# Altium footprint library SC.PcbLib: 1 footprints
Each footprint in its own frame and in the unit in brackets; x right, y up, seen from the top. Pads: shape width x height; smd on the part's side, far side on the other; paste and mask are expansions set on the pad; w line width, h text height; cw(c..) or ccw(c..) is an arc to the next point about the centre after c.
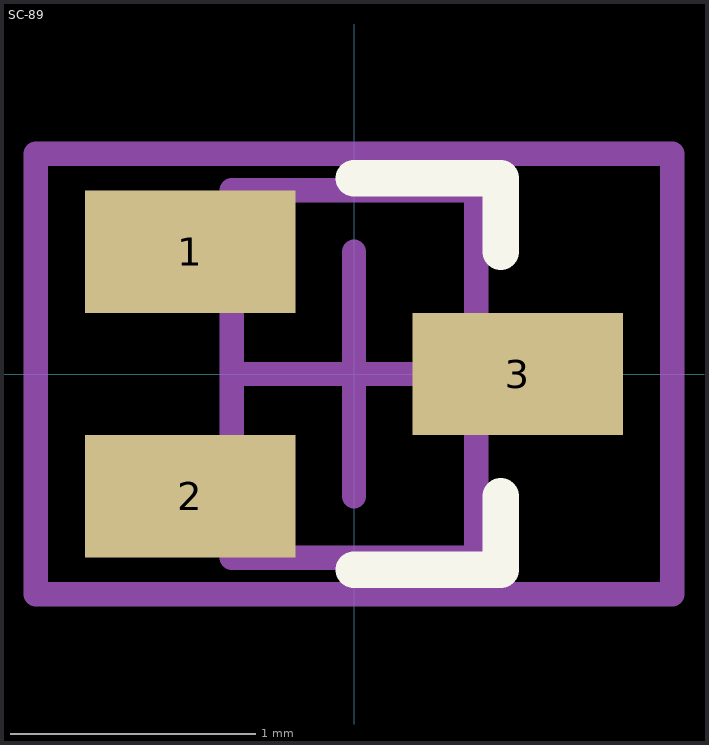
[diagram p0: the footprint, top view; thin cyan lines are the x and y axes]

## SC-89 [mm] "SC-89, 3-Leads, Body 1.7x1mm, Lead Span 1.7mm, IPC Medium Density"
height 0.8
pads (3):
  rect 0.86x0.5 smd: 1(-0.67,0.5) 2(-0.67,-0.5) 3(0.67,0)
Top Overlay:
  lines w0.15: 0,-0.8 0.6,-0.8 0.6,-0.5 ; 0,0.8 0.6,0.8 0.6,0.5
Mechanical 13:
  lines w0.1: -0.5,-0.75 -0.5,0.75 0.5,0.75 0.5,-0.75 -0.5,-0.75
Mechanical 15:
  lines w0.1: -0.5,0 0.5,0 ; 0,-0.5 0,0.5 ; -1.3,-0.9 1.3,-0.9 1.3,0.9 -1.3,0.9 -1.3,-0.9
3D body: height 0.8, standoff 0, extent -0.5,-0.75 0.5,0.75